# Altium schematic symbol library MAX2771ETI+.SchLib: 1 symbol
Pins are listed as number, name and electrical type; pins without a type are passive.

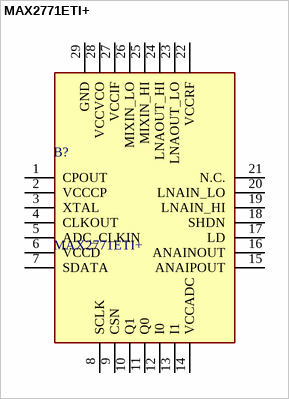
[diagram p0: symbol MAX2771ETI+]

## MAX2771ETI+
designator B?
MAXIM INTEGRATED PRODUCTS - MAX2771ETI+ - GNSS RX, 1.57542GHZ, -40 TO 85DEG C; Manufacturer_Name: Analog Devices; Geometry.Height: 0.8mm; Mouser Part Number: 700-MAX2771ETI+; Mouser Price/Stock: https://www.mouser.co.uk/ProductDetail/Maxim-Integrated/MAX2771ETI%2b?qs=lc2O%252BfHJPVYuzqxyqJXfmg%3D%3D; Manufacturer_Part_Number: MAX2771ETI+; Datasheet Link: *
footprint QFN50P500X500X80-29N
pins: 1 CPOUT, 2 VCCCP, 3 XTAL, 4 CLKOUT, 5 ADC_CLKIN, 6 VCCD, 7 SDATA, 8 SCLK, 9 CSN, 10 Q1, 11 Q0, 12 I0, 13 I1, 14 VCCADC, 15 ANAIPOUT, 16 ANAINOUT, 17 LD, 18 SHDN, 19 LNAIN_HI, 20 LNAIN_LO, 21 N.C., 22 VCCRF, 23 LNAOUT_LO, 24 LNAOUT_HI, 25 MIXIN_HI, 26 MIXIN_LO, 27 VCCIF, 28 VCCVCO, 29 GND